# Altium footprint library Voltage Regulator.PcbLib: 19 footprints (part 2 of 2)
Each footprint in its own frame and in the unit in brackets; x right, y up, seen from the top. Pads: shape width x height; smd on the part's side, far side on the other; paste and mask are expansions set on the pad; w line width, h text height; cw(c..) or ccw(c..) is an arc to the next point about the centre after c.
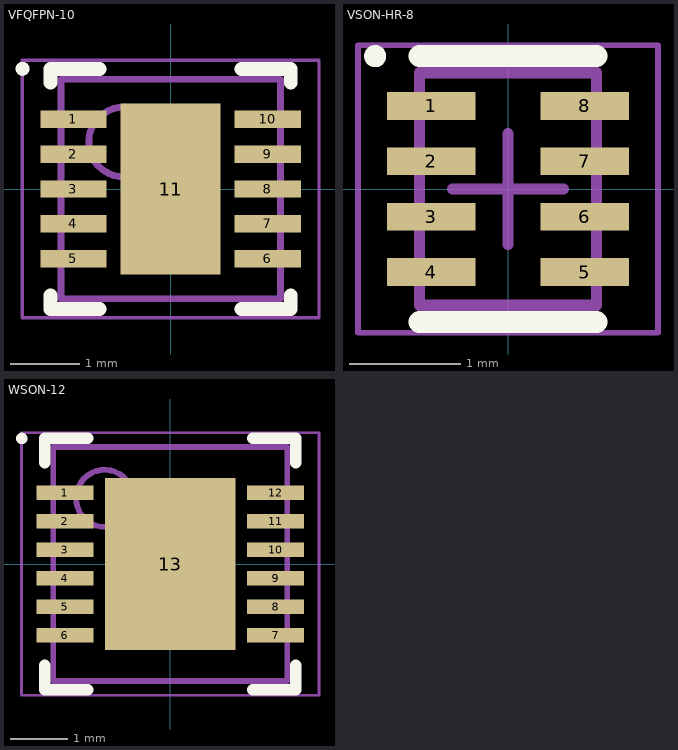
[diagram p1: the footprints below, top view; thin cyan lines are the x and y axes]

## VFQFPN-10 [mm] "SON, 10-Leads, Body 3,00x3,00mm, Pitch 0,50mm, Thermal Pad 2,45x1,44mm, IPC Medium Density"
height 1
pads (11):
  rect 0.95x0.25 smd: 1(-1.395,1) 2(-1.395,0.5) 3(-1.395,0) 4(-1.395,-0.5) 5(-1.395,-1) 6(1.395,-1) 7(1.395,-0.5) 8(1.395,0) 9(1.395,0.5) 10(1.395,1)
  rect 1.44x2.45 smd: 11(0,0)
Top Overlay:
  circle w0.1: c-2.125,1.725 r0.05
  lines w0.2: -1.725,-1.525 -1.725,-1.725 -1.02,-1.725 ; -1.725,1.525 -1.725,1.725 -1.02,1.725 ; 1.02,-1.725 1.725,-1.725 1.725,-1.525 ; 1.02,1.725 1.725,1.725 1.725,1.525
Mechanical 13:
  circle w0.1: c-0.675,0.675 r0.5
  lines w0.1: -1.575,-1.575 -1.575,1.575 1.575,1.575 1.575,-1.575 -1.575,-1.575
Mechanical 15:
  lines w0.05: -2.13,-1.85 -2.13,1.85 2.13,1.85 2.13,-1.85 -2.13,-1.85
  lines w0.1: -0.5,0 0.5,0 ; 0,-0.5 0,0.5
3D body "SON50P300X100_HS-11N.step": height 1, standoff 0, extent -1.595,-1.575 1.595,1.575

## VSON-HR-8 [mm] "SON, 8-Leads, Body 2,00x1,50mm, Pitch 0,50mm, IPC Medium Density"
height 1
pads (8):
  rect 0.8x0.25 smd: 1(-0.695,0.75) 2(-0.695,0.25) 3(-0.695,-0.25) 4(-0.695,-0.75) 5(0.695,-0.75) 6(0.695,-0.25) 7(0.695,0.25) 8(0.695,0.75)
Top Overlay:
  circle w0.1: c-1.2,1.2 r0.05
  lines w0.2: -0.8,-1.2 0.8,-1.2 ; -0.8,1.2 0.8,1.2
Mechanical 13:
  lines w0.1: -0.8,-1.05 -0.8,1.05 0.8,1.05 0.8,-1.05 -0.8,-1.05
Mechanical 15:
  lines w0.05: -1.355,-1.3 -1.355,1.3 1.355,1.3 1.355,-1.3 -1.355,-1.3
  lines w0.1: -0.5,0 0.5,0 ; 0,-0.5 0,0.5
3D body "SON50P150X100-8N.step": height 1, standoff 0, extent -0.88,-1.05 0.88,1.05

## WSON-12 [mm] "SON, 12-Leads, Body 4,00x4,00mm, Pitch 0,50mm, Thermal Pad 3,01x2,29mm, IPC Medium Density"
height 1
pads (13):
  rect 1x0.25 smd: 1(-1.845,1.25) 2(-1.845,0.75) 3(-1.845,0.25) 4(-1.845,-0.25) 5(-1.845,-0.75) 6(-1.845,-1.25) 7(1.845,-1.25) 8(1.845,-0.75) 9(1.845,-0.25) 10(1.845,0.25) 11(1.845,0.75) 12(1.845,1.25)
  rect 2.29x3.01 smd paste-1.145: 13(0,0)
Top Overlay:
  circle w0.1: c-2.6,2.2 r0.05
  lines w0.2: -2.2,-1.775 -2.2,-2.2 -1.445,-2.2 ; -2.2,1.775 -2.2,2.2 -1.445,2.2 ; 1.445,-2.2 2.2,-2.2 2.2,-1.775 ; 1.445,2.2 2.2,2.2 2.2,1.775
Top Paste:
  rectangle: 0.1,-1.41 1.05,-0.1
  rectangle: 0.1,0.1 1.05,1.41
  rectangle: -1.05,-1.41 -0.1,-0.1
  rectangle: -1.05,0.1 -0.1,1.41
Mechanical 13:
  circle w0.1: c-1.15,1.15 r0.5
  lines w0.1: -2.05,-2.05 2.05,-2.05 2.05,2.05 -2.05,2.05 -2.05,-2.05
Mechanical 15:
  lines w0.05: -2.605,-2.3 2.605,-2.3 2.605,2.3 -2.605,2.3 -2.605,-2.3
  lines w0.1: -0.5,0 0.5,0 ; 0,-0.5 0,0.5
3D body "SON50P400X100_HS-13N.step": height 1, standoff 0, extent -2.13,-2.05 2.13,2.05